# EAGLE library part IC_QFN_20 (library solderlessPCB v164)
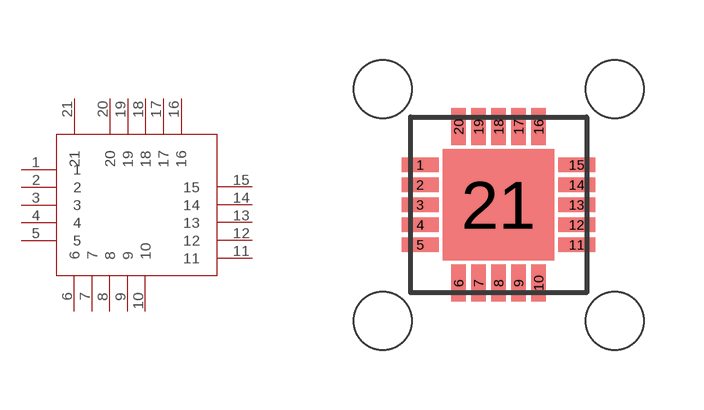
[diagram p8: symbol with the pads of QFN_21; footprint QFN_21]

Designator prefix -

## IC_QFN_20  [QFN_21]
1  1
2  2
3  3
4  4
5  5
6  6
7  7
8  8
9  9
10  10
11  11
12  12
13  13
14  14
15  15
16  16
17  17
18  18
19  19
20  20
21  21

## Footprint QFN_21 (pad centres in mm)
smd 0.914 x 0.36: 1 -1.956,1; 2 -1.956,0.5; 3 -1.956,0; 4 -1.956,-0.5; 5 -1.956,-1; 11 1.956,-1; 12 1.956,-0.5; 13 1.956,0; 14 1.956,0.5; 15 1.956,1
smd 0.36 x 0.914: 6 -1,-1.956; 7 -0.5,-1.956; 8 0,-1.956; 9 0.5,-1.956; 10 1,-1.956; 16 1,1.956; 17 0.5,1.956; 18 0,1.956; 19 -0.5,1.956; 20 -1,1.956
smd 2.78 x 2.78: 21 0,0
hole 1.45 at -2.9,2.9
hole 1.45 at 2.9,-2.9
hole 1.45 at 2.9,2.9
hole 1.45 at -2.9,-2.9